# Altium footprint library SKALE_LIB.PcbLib: 52 footprints (part 3 of 4)
Each footprint in its own frame and in the unit in brackets; x right, y up, seen from the top. Pads: shape width x height; smd on the part's side, far side on the other; paste and mask are expansions set on the pad; w line width, h text height; cw(c..) or ccw(c..) is an arc to the next point about the centre after c.
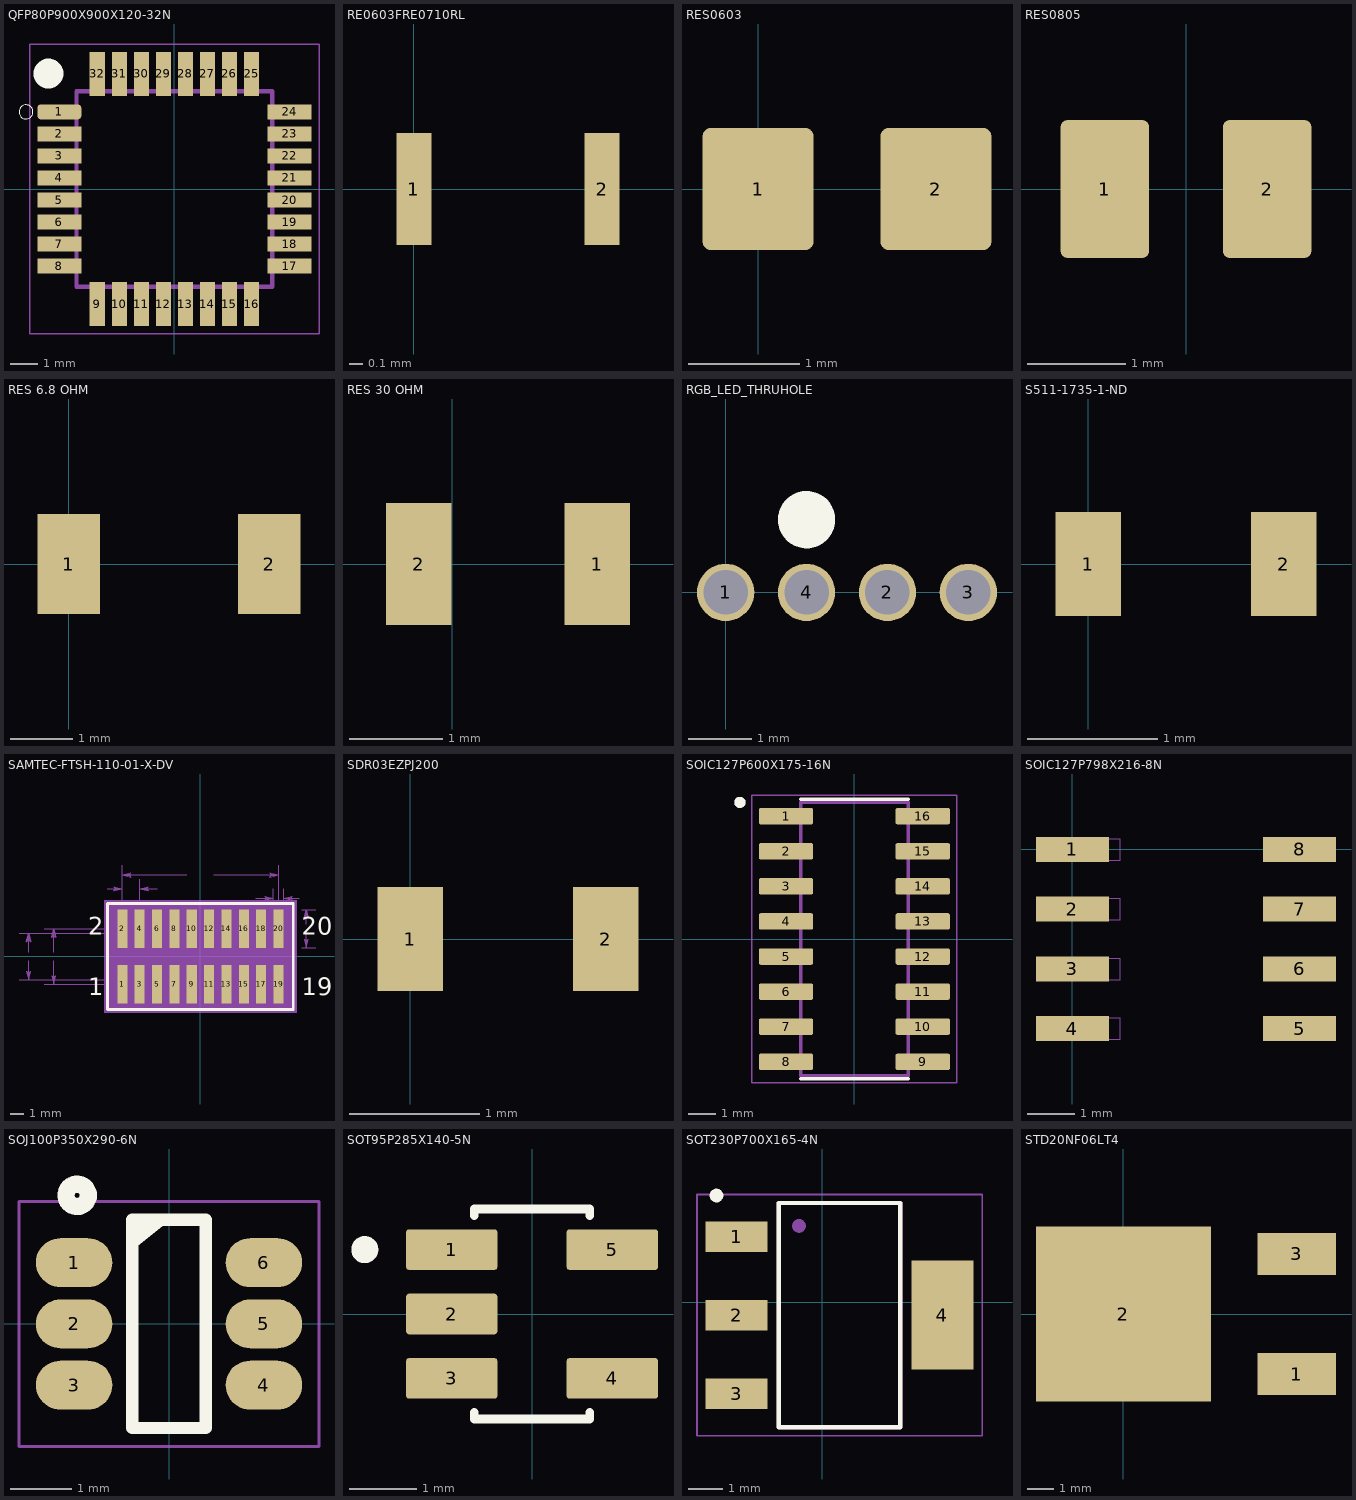
[diagram p2: the footprints below, top view; thin cyan lines are the x and y axes]

## QFP80P900X900X120-32N [mm]
pads (32):
  rrect50% 1.6x0.55 smd: 1(-4.18,2.8)
  rect 1.6x0.55 smd: 2(-4.18,2) 3(-4.18,1.2) 4(-4.18,0.4) 5(-4.18,-0.4) 6(-4.18,-1.2) 7(-4.18,-2) 8(-4.18,-2.8) 17(4.18,-2.8) 18(4.18,-2) 19(4.18,-1.2) 20(4.18,-0.4) 21(4.18,0.4) 22(4.18,1.2) 23(4.18,2) 24(4.18,2.8)
  rect 0.55x1.6 smd: 9(-2.8,-4.18) 10(-2,-4.18) 11(-1.2,-4.18) 12(-0.4,-4.18) 13(0.4,-4.18) 14(1.2,-4.18) 15(2,-4.18) 16(2.8,-4.18) 25(2.8,4.18) 26(2,4.18) 27(1.2,4.18) 28(0.4,4.18) 29(-0.4,4.18) 30(-1.2,4.18) 31(-2,4.18) 32(-2.8,4.18)
Top Overlay:
  circle w0: c-5.389,2.8 r0.254
  circle w0.826: c-4.572,4.191 r0.127
Mechanical 13:
  lines w0.152: -3.55,-3.55 3.55,-3.55 3.55,3.55 -3.55,3.55 -3.55,-3.55
Mechanical 15:
  lines w0.05: -5.25,-5.25 5.25,-5.25 5.25,5.25 -5.25,5.25 -5.25,-5.25
3D body "ATSAMD21E17A-AU.STEP": height 1.23, standoff 0.03, extent -4.5,-4.428 4.5,4.572

## RE0603FRE0710RL [mm]
pads (2):
  rect 0.25x0.8 smd: 1(0,0) 2(1.35,0)
3D body "RE0603FRE0710RL.STEP": height 0.55, standoff 0, extent -0.139,-0.4 1.461,0.4

## RES0603 [mm] "Chip Resistor, Body 1.6x0.8mm, IPC Medium Density"
height 0.6
pads (2):
  rrect15% 1x1.1 smd: 1(0,0) 2(1.6,0)
3D body "0603.step": height 0.46, standoff 0.01, extent 0,-0.4 1.6,0.4

## RES0805 [mm] "Chip Resistor, 2-Leads, Body 2.00x1.25mm, IPC High Density"
height 0.5
pads (2):
  rrect15% 0.9x1.4 smd: 1(-0.825,0) 2(0.825,0)
3D body "0805 resistor.step": height 0.61, standoff 0.01, extent -1,-0.625 1,0.625

## RES 6.8 OHM [mm]
pads (2):
  rect 1x1.6 smd: 1(0,0) 2(3.2,0)
3D body "RMCF1206JT6R80.STEP": height 0.7, standoff 0, extent 0,-0.8 3.2,0.8

## RES 30 OHM [mm]
pads (2):
  rect 0.7x1.3 smd: 1(1.55,0) 2(-0.356,0)
3D body "CRCW080530R0FKEAC.STEP": height 0.6, standoff 0, extent -0.416,-0.625 1.584,0.625

## RGB_LED_THRUHOLE [mm]
pads (4):
  round 0.9 hole 0.7: 1(0,0) 2(2.54,0) 3(3.81,0) 4(1.27,0)
Top Overlay:
  circle w0.5: c1.27,1.143 r0.2
3D body "CA GRB LED 5mm.STEP": height 11.6, standoff -22.6, extent -0.807,-2.833 4.318,2.667

## S511-1735-1-ND [mm]
pads (2):
  rect 0.5x0.8 smd: 1(0,0) 2(1.5,0)
3D body "SDR03EZPJ121.STEP": height 0.55, standoff 0, extent -0.038,-0.4 1.562,0.4

## SAMTEC-FTSH-110-01-X-DV [mm]
pads (20):
  rect 0.74x2.79 smd mask+0: 1(-5.715,-2.032) 2(-5.715,2.032) 3(-4.445,-2.032) 4(-4.445,2.032) 5(-3.175,-2.032) 6(-3.175,2.032) 7(-1.905,-2.032) 8(-1.905,2.032) 9(-0.635,-2.032) 10(-0.635,2.032) 11(0.635,-2.032) 12(0.635,2.032) 13(1.905,-2.032) 14(1.905,2.032) 15(3.175,-2.032) 16(3.175,2.032) 17(4.445,-2.032) 18(4.445,2.032) 19(5.715,-2.032) 20(5.715,2.032)
Top Overlay:
  lines w0.2: -6.8,-3.878 -6.8,3.878 6.8,3.878 6.8,-3.878 -6.8,-3.878
  text "1" at -8.206,-2.845 h1.27
  text "2" at -8.206,1.575 h1.27
  text "19" at 7.406,-2.845 h1.27
  text "20" at 7.406,1.575 h1.27
Top Paste:
  region: -5.345,-3.427 -6.085,-3.427 -6.085,-0.637 -5.345,-0.637
  region: -5.345,0.637 -6.085,0.637 -6.085,3.427 -5.345,3.427
  region: -4.075,-3.427 -4.815,-3.427 -4.815,-0.637 -4.075,-0.637
  region: -4.075,0.637 -4.815,0.637 -4.815,3.427 -4.075,3.427
  region: -2.805,-3.427 -3.545,-3.427 -3.545,-0.637 -2.805,-0.637
  region: -2.805,0.637 -3.545,0.637 -3.545,3.427 -2.805,3.427
  region: -1.535,-3.427 -2.275,-3.427 -2.275,-0.637 -1.535,-0.637
  region: -1.535,0.637 -2.275,0.637 -2.275,3.427 -1.535,3.427
  region: -0.265,-3.427 -1.005,-3.427 -1.005,-0.637 -0.265,-0.637
  region: -0.265,0.637 -1.005,0.637 -1.005,3.427 -0.265,3.427
  region: 1.005,-3.427 0.265,-3.427 0.265,-0.637 1.005,-0.637
  region: 1.005,0.637 0.265,0.637 0.265,3.427 1.005,3.427
  region: 2.275,-3.427 1.535,-3.427 1.535,-0.637 2.275,-0.637
  region: 2.275,0.637 1.535,0.637 1.535,3.427 2.275,3.427
  region: 3.545,-3.427 2.805,-3.427 2.805,-0.637 3.545,-0.637
  region: 3.545,0.637 2.805,0.637 2.805,3.427 3.545,3.427
  region: 4.815,-3.427 4.075,-3.427 4.075,-0.637 4.815,-0.637
  region: 4.815,0.637 4.075,0.637 4.075,3.427 4.815,3.427
  region: 6.085,-3.427 5.345,-3.427 5.345,-0.637 6.085,-0.637
  region: 6.085,0.637 5.345,0.637 5.345,3.427 6.085,3.427
Top Solder:
  region: -5.294,-3.478 -6.136,-3.478 -6.136,-0.586 -5.294,-0.586
  region: -5.294,0.586 -6.136,0.586 -6.136,3.478 -5.294,3.478
  region: -4.024,-3.478 -4.866,-3.478 -4.866,-0.586 -4.024,-0.586
  region: -4.024,0.586 -4.866,0.586 -4.866,3.478 -4.024,3.478
  region: -2.754,-3.478 -3.596,-3.478 -3.596,-0.586 -2.754,-0.586
  region: -2.754,0.586 -3.596,0.586 -3.596,3.478 -2.754,3.478
  region: -1.484,-3.478 -2.326,-3.478 -2.326,-0.586 -1.484,-0.586
  region: -1.484,0.586 -2.326,0.586 -2.326,3.478 -1.484,3.478
  region: -0.214,-3.478 -1.056,-3.478 -1.056,-0.586 -0.214,-0.586
  region: -0.214,0.586 -1.056,0.586 -1.056,3.478 -0.214,3.478
  region: 1.056,-3.478 0.214,-3.478 0.214,-0.586 1.056,-0.586
  region: 1.056,0.586 0.214,0.586 0.214,3.478 1.056,3.478
  region: 2.326,-3.478 1.484,-3.478 1.484,-0.586 2.326,-0.586
  region: 2.326,0.586 1.484,0.586 1.484,3.478 2.326,3.478
  region: 3.596,-3.478 2.754,-3.478 2.754,-0.586 3.596,-0.586
  region: 3.596,0.586 2.754,0.586 2.754,3.478 3.596,3.478
  region: 4.866,-3.478 4.024,-3.478 4.024,-0.586 4.866,-0.586
  region: 4.866,0.586 4.024,0.586 4.024,3.478 4.866,3.478
  region: 6.136,-3.478 5.294,-3.478 5.294,-0.586 6.136,-0.586
  region: 6.136,0.586 5.294,0.586 5.294,3.478 6.136,3.478
Mechanical 13:
  drawing of 330 lines, arcs and shapes, not listed
  text "3.429" at -13.233,-0.127 h0.25
  text "4.064" at -11.392,-0.127 h0.25
  text "1" at -8.206,-2.845 h1.27
  text "2" at -8.206,1.575 h1.27
  text "1.270" at -8.344,4.826 h0.25
  text "12.700" at -0.8,1.143 h0.25
  text "11.430" at -0.8,5.842 h0.25
  text "19" at 7.406,-2.845 h1.27
  text "20" at 7.406,1.575 h1.27
  text "2.794" at 7.087,1.905 h0.25
  text "0.762" at 7.404,4.128 h0.25
Mechanical 15:
  region: 7.035,-4.113 -7.035,-4.113 -7.035,4.113 7.035,4.113

## SDR03EZPJ200 [mm]
pads (2):
  rect 0.5x0.8 smd: 1(0,0) 2(1.5,0)
3D body "SDR03EZPJ200.STEP": height 0.55, standoff 0, extent -0.038,-0.4 1.562,0.4

## SOIC127P600X175-16N [mm]
pads (16):
  rrect25% 1.97x0.6 smd: 1(-2.475,4.445) 2(-2.475,3.175) 3(-2.475,1.905) 4(-2.475,0.635) 5(-2.475,-0.635) 6(-2.475,-1.905) 7(-2.475,-3.175) 8(-2.475,-4.445) 9(2.475,-4.445) 10(2.475,-3.175) 11(2.475,-1.905) 12(2.475,-0.635) 13(2.475,0.635) 14(2.475,1.905) 15(2.475,3.175) 16(2.475,4.445)
Top Overlay:
  circle w0.2: c-4.145,4.945 r0.1
  lines w0.127: -1.95,-5.065 1.95,-5.065 ; -1.95,5.065 1.95,5.065
Mechanical 13:
  circle w0.2: c-4.145,4.945 r0.1
  lines w0.127: -1.95,-4.95 1.95,-4.95 1.95,4.95 -1.95,4.95 -1.95,-4.95
Mechanical 15:
  lines w0.05: -3.71,-5.2 3.71,-5.2 3.71,5.2 -3.71,5.2 -3.71,-5.2
3D body "CD4543BM96.STEP": height 1.75, standoff 0, extent -3.127,-4.953 2.873,4.947

## SOIC127P798X216-8N [mil]
pads (8):
  rect 61x21 smd: 1(0,0) 2(0,-50) 3(0,-100) 4(0,-150) 5(190,-150) 6(190,-100) 7(190,-50) 8(190,0)
Mechanical 13:
  lines w0: -17,-159 40,-159 40,-141 -17,-141 -17,-159 ; -17,-109 40,-109 40,-91 -17,-91 -17,-109 ; -17,-59 40,-59 40,-41 -17,-41 -17,-59 ; -17,-9 40,-9 40,9 -17,9 -17,-9
3D body "ATTINY85-20SH.STEP": height 68.9, standoff 0, extent -23.1,-171.45 213.12,21.46

## SOJ100P350X290-6N [mm]
pads (6):
  oval 1.25x0.8 smd: 1(-1.55,1) 2(-1.55,0) 3(-1.55,-1) 4(1.55,-1) 5(1.55,0) 6(1.55,1)
Top Overlay:
  circle w0.2: c-1.5,2.1 r0.224
  circle w0.2: c-1.5,2.1 r0.141
  region: -0.1,1.6 -0.6,1.2 -0.6,1.7
  lines w0.2: -0.6,-1.7 0.6,-1.7 0.6,1.7 -0.6,1.7 -0.6,-1.7
Mechanical 15:
  lines w0.05: -2.45,-2 2.45,-2 2.45,2 -2.45,2 -2.45,-2
3D body "ASMB-TTF0-0A20B.STEP": height 2.82, standoff 0.02, extent -1.85,-1.75 1.85,1.75

## SOT95P285X140-5N [mm] "AP2112K-3.3TRG1 LDO"
pads (5):
  rrect15% 1.35x0.6 smd: 1(-1.185,0.95) 2(-1.185,0) 3(-1.185,-0.95) 4(1.185,-0.95) 5(1.185,0.95)
Top Overlay:
  circle w0.2: c-2.469,0.95 r0.1
  lines w0.127: -0.85,-1.45 -0.85,-1.55 0.85,-1.55 0.85,-1.45 ; -0.85,1.45 -0.85,1.55 0.85,1.55 0.85,1.45
3D body "AP2112K-3.3TRG1--3DModel-STEP-56544.STEP": height 1.4, standoff 0, extent -1.4,-1.5 1.4,1.5

## SOT230P700X165-4N [mm]
pads (4):
  rect 1.81x0.89 smd: 1(-2.502,1.919) 2(-2.502,-0.381) 3(-2.502,-2.681)
  rect 1.81x3.19 smd: 4(3.518,-0.381)
Top Overlay:
  circle w0.2: c-3.092,3.119 r0.1
  lines w0.127: -1.272,-3.661 2.288,-3.661 2.288,2.899 -1.272,2.899 -1.272,-3.661
Mechanical 13:
  circle w0.2: c-0.679,2.23 r0.1
  lines w0.127: -1.272,-3.661 2.288,-3.661 2.288,2.899 -1.272,2.899 -1.272,-3.661
Mechanical 15:
  lines w0.05: -3.662,-3.911 -3.662,3.149 4.678,3.149 4.678,-3.911 -3.662,-3.911
3D body "DB.STEP": height 1.8, standoff 0, extent -2.991,-3.631 4.007,2.869

## STD20NF06LT4 [mm]
pads (3):
  rect 3x1.6 smd: 1(6.65,-2.3) 3(6.65,2.3)
  rect 6.7x6.7 smd: 2(0,0)
3D body "NOPB.STEP": height 2.55, standoff -0.17, extent -2.415,-3.27 7.495,3.27